# Altium footprint library INF-PG-TSDSON-8-1_A_V.PcbLib: 1 footprints
Each footprint in its own frame and in the unit in brackets; x right, y up, seen from the top. Pads: shape width x height; smd on the part's side, far side on the other; paste and mask are expansions set on the pad; w line width, h text height; cw(c..) or ccw(c..) is an arc to the next point about the centre after c.
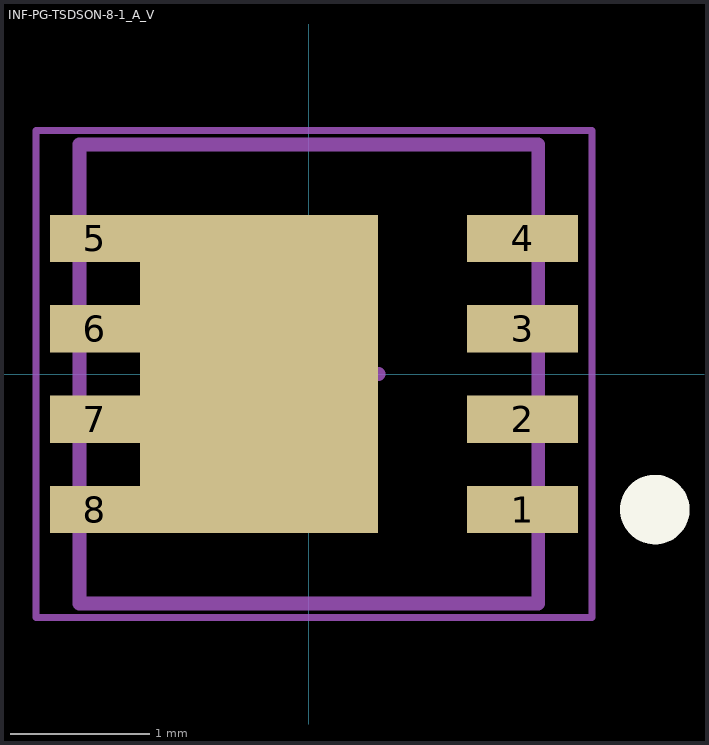
[diagram p0: the footprint, top view; thin cyan lines are the x and y axes]

## INF-PG-TSDSON-8-1_A_V [mm] "TSDSON, 8-Leads, Body 3.3x3.3mm, Pitch 0.65mm"
height 1
pads (9):
  rect 0.8x0.34 smd: 1(1.538,-0.975) 2(1.538,-0.325) 3(1.538,0.325) 4(1.538,0.975)
  rect 0.65x0.34 smd: 5(-1.538,0.975) 6(-1.538,0.325) 7(-1.538,-0.325) 8(-1.538,-0.975)
  rect 1.71x2.29 smd: ""(-0.358,0)
Top Overlay:
  circle w0.25: c2.488,-0.975 r0.125
Mechanical 13:
  lines w0.1: -1.65,-1.65 1.65,-1.65 1.65,1.65 -1.65,1.65 -1.65,-1.65
Mechanical 15:
  lines w0.05: -1.963,-1.75 2.038,-1.75 2.038,1.75 -1.963,1.75 -1.963,-1.75
  lines w0.1: -0.5,0 0.5,0 ; 0,-0.5 0,0.5
3D body: height 1, standoff 0, extent -1.65,-1.65 1.65,1.65